# EAGLE library part W25Q16JV (library T2M_4_0)
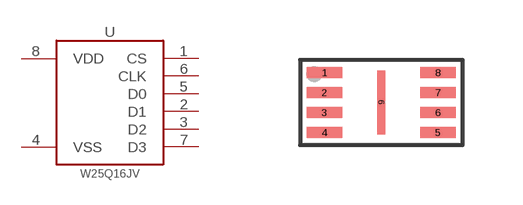
[diagram p1: symbol with the pads of USON-8-2X3MM; footprint USON-8-2X3MM]

Designator prefix U

## W25Q16JV-USON-8-2X3MM  [USON-8-2X3MM]
1  CS
2  D1
3  D2
4  VSS
5  D0
6  CLK
7  D3
8  VDD

## Footprint USON-8-2X3MM (pad centres in mm)
8-SON (DFN), 0.50 mm pitch, 2.00 X 3.00 X 0.60 mm body, 1.60 X 0.20 mm thermal pad 8-pin SON (DFN) package with 0.50 mm pitch with body size 2.00 X 3.00 X 0.60 mm and thermal pad size 1.60 X 0.20 mm
smd 0.888 x 0.27: 1 -1.421,0.75; 2 -1.421,0.25; 3 -1.421,-0.25; 4 -1.421,-0.75; 5 1.421,-0.75; 6 1.421,-0.25; 7 1.421,0.25; 8 1.421,0.75
smd 0.2 x 1.6: 9 0,0